# EAGLE library part LT3790 (library KVB-ICs)
Buck-Boost Regulator Positive Output Step-Up/Step-Down DC-DC Controller IC 38-TSSOP-EP
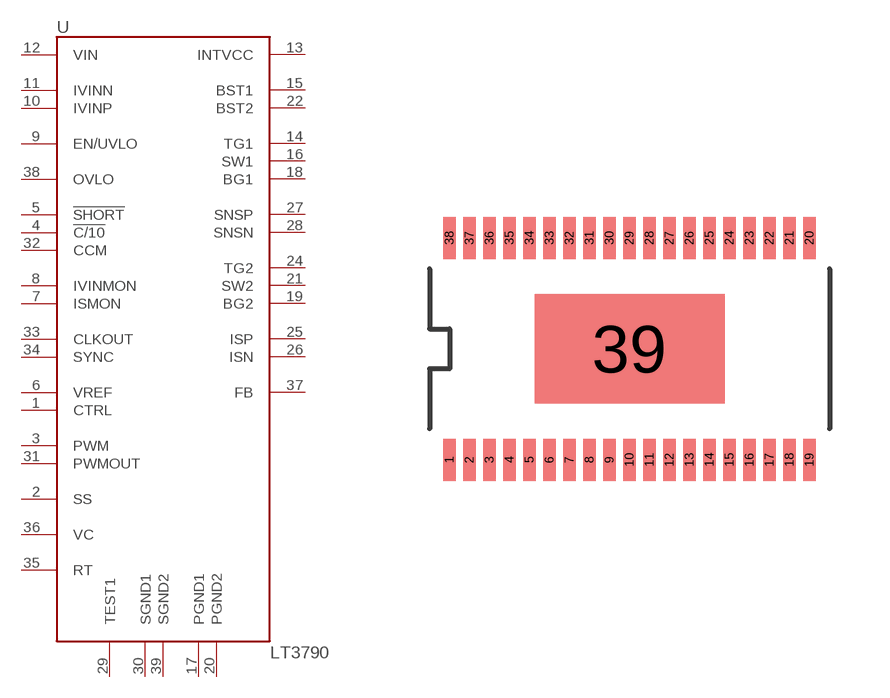
[diagram p11: symbol with the pads of LT3790; footprint LT3790]

Designator prefix U

## LT3790  [LT3790]
1  CTRL
2  SS
3  PWM
4  !C/10
5  !SHORT
6  VREF
7  ISMON
8  IVINMON
9  EN/UVLO
10  IVINP
11  IVINN
12  VIN
13  INTVCC
14  TG1
15  BST1
16  SW1
17  PGND1
18  BG1
19  BG2
20  PGND2
21  SW2
22  BST2
24  TG2
25  ISP
26  ISN
27  SNSP
28  SNSN
29  TEST1
30  SGND1
31  PWMOUT
32  CCM
33  CLKOUT
34  SYNC
35  RT
36  VC
37  FB
38  OVLO
39  SGND2

## Footprint LT3790 (pad centres in mm)
smd 0.315 x 1.05: 1 -4.5,-2.775; 2 -4,-2.775; 3 -3.5,-2.775; 4 -3,-2.775; 5 -2.5,-2.775; 6 -2,-2.775; 7 -1.5,-2.775; 8 -1,-2.775; 9 -0.5,-2.775; 10 0,-2.775; 11 0.5,-2.775; 12 1,-2.775; 13 1.5,-2.775; 14 2,-2.775; 15 2.5,-2.775; 16 3,-2.775; 17 3.5,-2.775; 18 4,-2.775; 19 4.5,-2.775; 20 4.5,2.775; 21 4,2.775; 22 3.5,2.775; 23 3,2.775; 24 2.5,2.775; 25 2,2.775; 26 1.5,2.775; 27 1,2.775; 28 0.5,2.775; 29 0,2.775; 30 -0.5,2.775; 31 -1,2.775; 32 -1.5,2.775; 33 -2,2.775; 34 -2.5,2.775; 35 -3,2.775; 36 -3.5,2.775; 37 -4,2.775; 38 -4.5,2.775
smd 4.75 x 2.74: 39 0,0